# Altium footprint library 320Parts.PcbLib: 16 footprints
Each footprint in its own frame and in the unit in brackets; x right, y up, seen from the top. Pads: shape width x height; smd on the part's side, far side on the other; paste and mask are expansions set on the pad; w line width, h text height; cw(c..) or ccw(c..) is an arc to the next point about the centre after c.
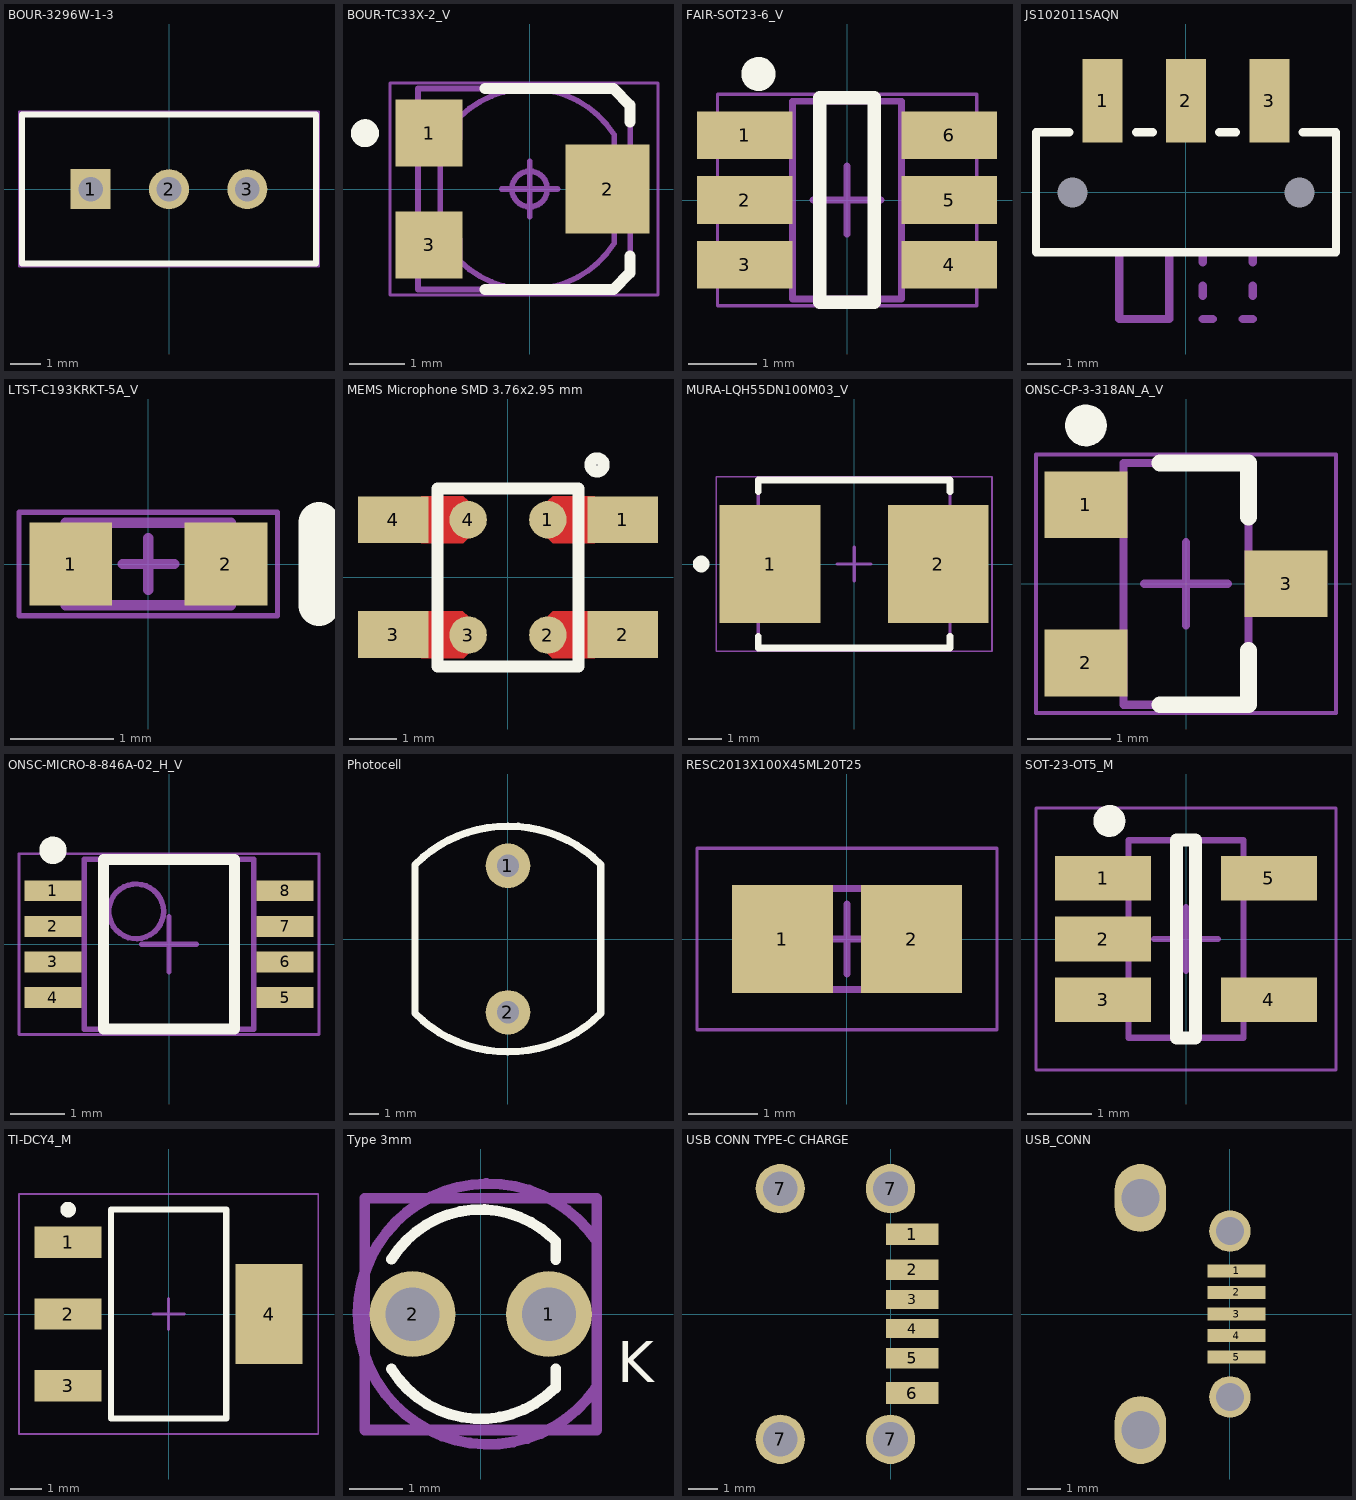
[diagram p0: the footprints below, top view; thin cyan lines are the x and y axes]

## BOUR-3296W-1-3 [mm] "THD, 3-Leads, Body 9.53x4.83mm, Pitch 2.54mm"
height 11.55
pads (3):
  rect 1.3x1.3 hole 0.8: 1(-2.54,0)
  round 1.3 hole 0.8: 2(0,0) 3(2.54,0)
Top Overlay:
  lines w0.2: -4.765,-2.41 -4.765,2.42 4.765,2.42 4.765,-2.41 -4.765,-2.41
Mechanical 13:
  lines w0.1: -4.765,-2.41 4.765,-2.41 4.765,2.42 -4.765,2.42 -4.765,-2.41
Mechanical 15:
  lines w0.05: -4.865,-2.51 4.865,-2.51 4.865,2.52 -4.865,2.52 -4.865,-2.51
  lines w0.1: -0.5,0 0.5,0 ; 0,-0.5 0,0.5
3D body "3296W.stp": height 11.55, standoff -6.4, extent -4.762,-2.41 4.762,2.416

## BOUR-TC33X-2_V [mm] "SMD, 3-Leads, Body 3.8x3.6mm"
height 1.2
pads (3):
  rect 1.2x1.2 smd: 1(-1.8,1) 3(-1.8,-1)
  rect 1.5x1.6 smd: 2(1.397,0)
Top Overlay:
  circle w0.25: c-2.95,1 r0.125
  lines w0.2: -0.8,-1.8 1.5,-1.8 1.8,-1.5 1.8,-1.2 ; -0.8,1.8 1.5,1.8 1.8,1.5 1.8,1.2
Mechanical 13:
  lines w0.1: 1.515,-0.73 1.95,-0.73 1.95,-0.425 1.8,-0.425 ; 1.515,0.73 1.95,0.73 1.95,0.425 1.8,0.425 ; 1.8,-0.75 1.8,-1.5 1.5,-1.8 -2,-1.8 -2,1.8 1.5,1.8 1.8,1.5 1.8,0.75 ; 1.8,-0.42 1.8,0.42 ; -1.6,-0.895 -1.6,0.895 -1.25,0.895 -1.25,1.295 cw(c0,0) 1.515,0.972 1.515,0.352 cw(c1.16,0) 1.515,-0.352 1.515,-0.972 cw(c0,0) -1.25,-1.295 -1.25,-0.895 -1.6,-0.895 ; 0,-0.318 ccw(c0,0) 0,0.317 ccw(c0,0) 0,-0.318
Mechanical 15:
  lines w0.05: -2.5,-1.9 -2.5,1.9 2.3,1.9 2.3,-1.9 -2.5,-1.9
  lines w0.1: -0.5,0 0.5,0 ; 0,-0.5 0,0.5
3D body "BOUR-TC33X-2.stp": height 1.15, standoff 0, extent -2,-1.8 1.963,1.8

## FAIR-SOT23-6_V [mm] "SOT23, 6-Leads, Body 2.9x1.6mm, Pitch 0.95mm"
height 1.1
pads (6):
  rect 1.4x0.7 smd: 1(-1.5,0.95) 2(-1.5,0) 3(-1.5,-0.95) 4(1.5,-0.95) 5(1.5,0) 6(1.5,0.95)
Top Overlay:
  circle w0.25: c-1.3,1.85 r0.125
  lines w0.2: -0.4,-1.5 0.4,-1.5 0.4,1.5 -0.4,1.5 -0.4,-1.5
Mechanical 13:
  lines w0.1: -0.8,-1.45 -0.8,1.45 0.8,1.45 0.8,-1.45 -0.8,-1.45
Mechanical 15:
  lines w0.05: -1.9,-1.55 -1.9,1.55 1.9,1.55 1.9,-1.55 -1.9,-1.55
  lines w0.1: -0.5,0 0.5,0 ; 0,-0.5 0,0.5
3D body "SOT95P280X145-6L.step": height 1.45, standoff 0, extent -1.4,-1.45 1.4,1.45

## JS102011SAQN [mm] "SMT slide switch"
pads (5):
  rect 1.2x2.5 smd: 1(-2.5,2.75) 2(0,2.75) 3(2.5,2.75)
  round 0 hole 0.9 unplated: ""(-3.4,0) ""(3.4,0)
Top Overlay:
  lines w0.254: -3.5,1.8 -4.5,1.8 -4.5,-1.8 4.5,-1.8 4.5,1.8 3.5,1.8 ; -1.5,1.8 -1,1.8 ; 1,1.8 1.5,1.8
Mechanical 13:
  lines w0.254: -2,-1.8 -2,-3.8 -0.5,-3.8 -0.5,-1.8 ; 0.5,-3.8 0.8,-3.8 ; 0.5,-3.1 0.5,-2.8 ; 0.5,-2.1 0.5,-1.8 ; 1.7,-3.8 2,-3.8 ; 2,-3.1 2,-2.8 ; 2,-2.1 2,-1.8
3D body: height 3.5, standoff 1.5, extent -2,-3.8 -0.5,-1.8
3D body: height 0.6, standoff 0, extent -2.8,1.8 -2.2,3.7
3D body: height 0.6, standoff 0, extent 2.2,1.8 2.8,3.7
3D body: height 0.6, standoff 0, extent -0.3,1.8 0.3,3.7
3D body: height 3.5, standoff 0, extent -4.5,-1.8 4.5,1.8

## LTST-C193KRKT-5A_V [mm] "SMD, 2-Leads, Body 1.6x0.8mm"
height 0.45
pads (2):
  rect 0.8x0.8 smd: 1(-0.75,0) 2(0.75,0)
Top Overlay:
  lines w0.4: 1.65,-0.4 1.65,0.4
Mechanical 13:
  lines w0.1: -0.8,-0.4 0.8,-0.4 0.8,0.4 -0.8,0.4 -0.8,-0.4
Mechanical 15:
  lines w0.05: -1.25,-0.5 -1.25,0.5 1.25,0.5 1.25,-0.5 -1.25,-0.5
  lines w0.1: -0.25,0 0.25,0 ; 0,-0.25 0,0.25
3D body: height 0.18, standoff 0, extent -0.8,-0.4 0.8,0.4
3D body: height 0.45, standoff 0, extent -0.575,-0.4 0.575,0.4

## MEMS Microphone SMD 3.76x2.95 mm [mm] "MEMS microphone"
pads (8):
  round 0.8 smd: 1(0.85,1.23) 2(0.85,-1.23) 3(-0.85,-1.23) 4(-0.85,1.23)
  rect 1.5x1 smd: 1(2.45,1.23) 2(2.45,-1.22) 3(-2.45,-1.22) 4(-2.45,1.23)
Top Layer:
  region: -0.85,0.83 -0.95,0.73 -1.85,0.73 -1.85,1.73 -0.95,1.73 -0.85,1.63
  region: -0.85,-1.63 -0.94,-1.72 -1.85,-1.72 -1.85,-0.72 -0.96,-0.72 -0.85,-0.83
  region: 0.85,-0.83 0.96,-0.72 1.85,-0.72 1.85,-1.72 0.94,-1.72 0.85,-1.63
  region: 0.85,1.63 0.95,1.73 1.85,1.73 1.85,0.73 0.95,0.73 0.85,0.83
Top Overlay:
  circle w0.254: c1.9,2.4 r0.141
  lines w0.254: -1.5,-1.9 -1.5,1.9 1.5,1.9 1.5,-1.9 -1.5,-1.9
3D body: height 1, standoff 0, extent -1.475,-1.9 1.475,1.9

## MURA-LQH55DN100M03_V [mm] "SMD, 2-Leads, Body 5.7x5mm"
height 5
pads (2):
  rect 3x3.5 smd: 1(-2.5,0) 2(2.5,0)
Top Overlay:
  circle w0.25: c-4.55,0 r0.125
  lines w0.2: -2.85,-2.15 -2.85,-2.5 2.85,-2.5 2.85,-2.15 ; -2.85,2.15 -2.85,2.5 2.85,2.5 2.85,2.15
Mechanical 13:
  lines w0.1: -2.85,-2.5 -2.85,2.5 2.85,2.5 2.85,-2.5 -2.85,-2.5
Mechanical 15:
  lines w0.05: -4.1,-2.6 4.1,-2.6 4.1,2.6 -4.1,2.6 -4.1,-2.6
  lines w0.1: -0.5,0 0.5,0 ; 0,-0.5 0,0.5
3D body "User Library-LQH55D series.STEP": height 4.7, standoff 0, extent -2.85,-2.5 2.85,2.5

## ONSC-CP-3-318AN_A_V [mm] "SOT23, 3-Leads, Body 2.9x1.5mm, Pitch 0.95mm"
height 1.308
pads (3):
  rect 1x0.8 smd: 1(-1.2,0.95) 2(-1.2,-0.95) 3(1.2,0)
Top Overlay:
  circle w0.25: c-1.2,1.9 r0.125
  lines w0.2: -0.313,-1.45 0.75,-1.45 0.75,-0.8 ; -0.313,1.45 0.75,1.45 0.75,0.8
Mechanical 13:
  lines w0.1: -0.75,-1.45 0.75,-1.45 0.75,1.45 -0.75,1.45 -0.75,-1.45
Mechanical 15:
  lines w0.05: -1.8,-1.55 1.8,-1.55 1.8,1.55 -1.8,1.55 -1.8,-1.55
  lines w0.1: -0.5,0 0.5,0 ; 0,-0.5 0,0.5
3D body: height 1.31, standoff 0, extent -0.75,-1.45 0.75,1.45

## ONSC-MICRO-8-846A-02_H_V [mm] "SOIC, 8-Leads, Body 3.1x3.1mm, Pitch 0.65mm"
height 1.1
pads (8):
  rect 1.04x0.38 smd: 1(-2.12,0.975) 2(-2.12,0.325) 3(-2.12,-0.325) 4(-2.12,-0.975) 5(2.12,-0.975) 6(2.12,-0.325) 7(2.12,0.325) 8(2.12,0.975)
Top Overlay:
  circle w0.25: c-2.12,1.715 r0.125
  lines w0.2: -1.2,-1.55 -1.2,1.55 1.2,1.55 1.2,-1.55 -1.2,-1.55
Mechanical 13:
  circle w0.1: c-0.6,0.6 r0.5
  lines w0.1: -1.55,-1.55 -1.55,1.55 1.55,1.55 1.55,-1.55 -1.55,-1.55
Mechanical 15:
  lines w0.05: -2.74,-1.65 -2.74,1.65 2.74,1.65 2.74,-1.65 -2.74,-1.65
  lines w0.1: -0.5,0 0.5,0 ; 0,-0.5 0,0.5
3D body: height 1.1, standoff 0.05, extent -1.55,-1.55 1.55,1.55

## Photocell [mil]
height 77.17
pads (2):
  round 60 hole 30: 1(0,98.58) 2(0,-98.58)
Top Overlay:
  lines w10: 125,100 125,-100 cw(c0,25) -125,-100 -125,100 cw(c0.15,-24.84) 125.16,100.16
3D body: height 77.17, standoff 0, extent -125,-155 125,155

## RESC2013X100X45ML20T25 [mm] "Chip Resistor, 2-Leads, Body 2.2x1.45mm, IPC Low Density"
height 1
pads (2):
  rect 1.45x1.55 smd: 1(-0.925,0) 2(0.925,0)
Mechanical 13:
  lines w0.1: -1.1,-0.725 -1.1,0.725 1.1,0.725 1.1,-0.725 -1.1,-0.725
Mechanical 15:
  lines w0.05: -2.15,-1.3 -2.15,1.3 2.15,1.3 2.15,-1.3 -2.15,-1.3
  lines w0.1: -0.5,0 0.5,0 ; 0,-0.5 0,0.5
3D body "RESC2012X10M.step": height 1, standoff 0, extent -1.1,-0.725 1.1,0.725

## SOT-23-OT5_M [mm] "SOT23, 5-Leads, Body 2.9x1.7mm, Pitch 0.95mm, Lead Span 2.8mm, IPC Low Density"
height 1.45
pads (5):
  rect 1.5x0.7 smd: 1(-1.3,0.95) 2(-1.3,0) 3(-1.3,-0.95) 4(1.3,-0.95) 5(1.3,0.95)
Top Overlay:
  circle w0.25: c-1.2,1.85 r0.125
  lines w0.2: -0.15,-1.55 0.15,-1.55 0.15,1.55 -0.15,1.55 -0.15,-1.55
Mechanical 13:
  lines w0.1: -0.9,-1.55 -0.9,1.55 0.9,1.55 0.9,-1.55 -0.9,-1.55
Mechanical 15:
  lines w0.05: -2.35,-2.05 -2.35,2.05 2.35,2.05 2.35,-2.05 -2.35,-2.05
  lines w0.1: -0.5,0 0.5,0 ; 0,-0.5 0,0.5
3D body: height 1.45, standoff 0, extent -0.9,-1.55 0.9,1.55

## TI-DCY4_M [mm] "SOT223, 4-Leads, Body 6.5x3.5mm, Pitch 2.3mm, IPC Low Density"
height 1.8
pads (4):
  rect 2.15x1 smd: 1(-3.225,2.3) 2(-3.225,0) 3(-3.225,-2.3)
  rect 2.15x3.2 smd: 4(3.225,0)
Top Overlay:
  circle w0.25: c-3.225,3.35 r0.125
  lines w0.2: -1.85,-3.35 1.85,-3.35 1.85,3.35 -1.85,3.35 -1.85,-3.35
Mechanical 13:
  lines w0.1: -1.85,-3.35 1.85,-3.35 1.85,3.35 -1.85,3.35 -1.85,-3.35
Mechanical 15:
  lines w0.05: -4.8,-3.85 4.8,-3.85 4.8,3.85 -4.8,3.85 -4.8,-3.85
  lines w0.1: -0.5,0 0.5,0 ; 0,-0.5 0,0.5
3D body: height 1.8, standoff 0.02, extent -1.85,-3.35 1.85,3.35

## Type 3mm [mm] "THT, LED-3mm, 2pin- Body 4.15mm(max)"
height 10.9
pads (2):
  round 1.6 hole 1: 1(1.27,0) 2(-1.27,0)
Top Overlay:
  lines w0.2: -1.661,-1.022 ccw(c0,0) 1.379,-1.379 ; -1.661,1.022 cw(c0,0) 1.312,1.443 1.397,1.358 1.397,1.016 ; 1.397,-1.379 1.397,-1.016
  text "K" at 2.54,-1.27 h0.76
Mechanical 13:
  lines w0.2: -2.159,-2.159 2.159,-2.159 2.159,2.159 -2.159,2.159 -2.159,-2.159
Mechanical 15:
  lines w0.2: 2.139,-1.38 cw(c0.143,0.003) 2.159,1.358 2.159,-1.379
  text "K" at 2.54,-1.27 h0.76
  text ".Designator" at 0,0 h0.76
3D body "WL-TMRW_3mm.stp": height 10.5, standoff -21.2, extent -1.934,-1.939 1.87,1.94

## USB CONN TYPE-C CHARGE [mm] "Charge only (no data) USB Type C connector HRO"
pads (10):
  rect 1.8x0.75 smd: 1(0.75,2.75) 6(0.75,-2.725)
  rect 1.8x0.71 smd: 2(0.75,1.525) 5(0.75,-1.525)
  rect 1.8x0.65 smd: 3(0.75,0.5) 4(0.75,-0.5)
  round 1.7 hole 1.2: 7(-3.8,-4.32) 7(-3.8,4.32) 7(0,-4.32) 7(0,4.32)
3D body: height 3.21, standoff 0, extent -6.4,-4.475 0.4,4.475
3D body: height 0.25, standoff 0, extent -7.475,2.075 -7.475,2.075

## USB_CONN [mm] "MicroUSB SMT R/A"
pads (9):
  rect 1.75x0.4 smd: 1(0.2,1.3) 2(0.2,0.65) 3(0.2,0) 4(0.2,-0.65) 5(0.2,-1.3)
  oval 1.55x2.05 hole 1.15: ""(-2.7,-3.5) ""(-2.7,3.5)
  round 1.25 hole 0.85: ""(0,-2.5) ""(0,2.5)
3D body "10118194c.stp": height 2.72, standoff -0.55, extent -5.4,-4.025 0.18,4.025